# Altium footprint library AccBottom.PcbLib: 7 footprints
Each footprint in its own frame and in the unit in brackets; x right, y up, seen from the top. Pads: shape width x height; smd on the part's side, far side on the other; paste and mask are expansions set on the pad; w line width, h text height; cw(c..) or ccw(c..) is an arc to the next point about the centre after c.
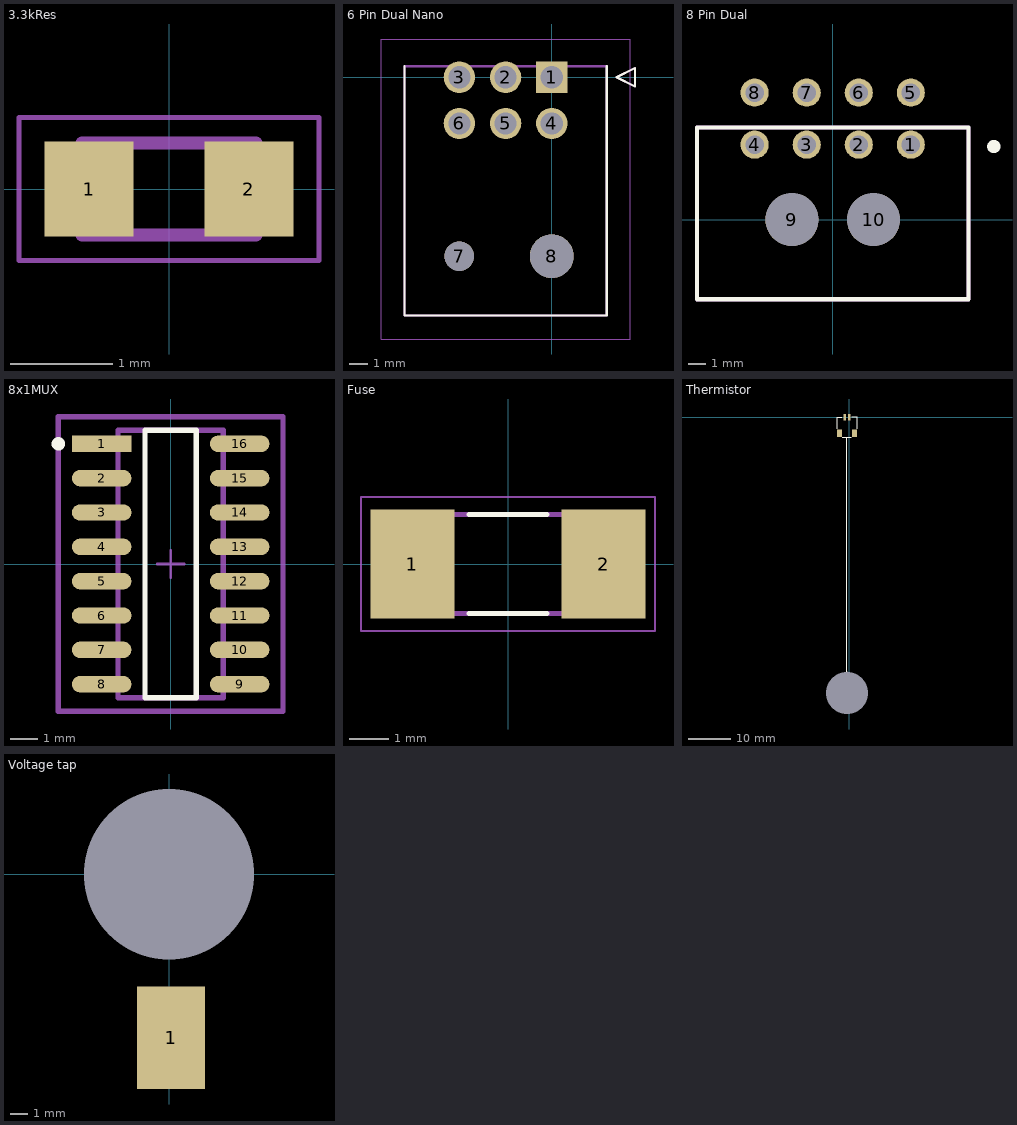
[diagram p0: the footprints below, top view; thin cyan lines are the x and y axes]

## 3.3kRes [mm]
pads (2):
  rect 0.87x0.93 smd: 1(-0.78,0) 2(0.78,0)
Mechanical 13:
  lines w0.127: -0.85,-0.45 0.85,-0.45 0.85,0.45 -0.85,0.45 -0.85,-0.45
Mechanical 15:
  lines w0.05: -1.465,-0.7 1.465,-0.7 1.465,0.7 -1.465,0.7 -1.465,-0.7
3D body "step_temp.STEP": height 0.55, standoff 0, extent -0.8,-0.4 0.8,0.4

## 6 Pin Dual Nano [mm]
pads (8):
  rect 1.7x1.7 / inner round 1.7 / far side rect 1.7x1.7 hole 1.2 mask+0.076: 1(0,0)
  round 1.7 hole 1.2 mask+0.076: 2(-2.5,0) 3(-5,0) 4(0,-2.5) 5(-2.5,-2.5) 6(-5,-2.5)
  round 1.6 hole 1.6 unplated mask+0.076: 7(-5,-9.68)
  round 2.37 hole 2.37 unplated mask+0.076: 8(0,-9.68)
Top Overlay:
  lines w0.127: -7.97,0.59 -7.97,-12.89 2.97,-12.89 2.97,0.59 ; 3.5,0 4.5,0.5 4.5,-0.5 3.5,0
Mechanical 15:
  lines w0.127: -7.97,-12.89 -7.97,0.59 2.97,0.59 2.97,-12.89 -7.97,-12.89 ; 3.5,0 4.5,0.5 4.5,-0.5 3.5,0
Mechanical 20:
  lines w0.05: -9.24,-14.16 -9.24,2.069 4.24,2.069 4.24,-14.16 -9.24,-14.16
3D body "1053141106.stp": height 5.8, standoff -4.65, extent -10,-3.376 10,3.376

## 8 Pin Dual [mm]
pads (10):
  round 1.62 hole 1.07: 1(4.5,4.32) 2(1.5,4.32) 3(-1.5,4.32) 4(-4.5,4.32) 5(4.5,7.32) 6(1.5,7.32) 7(-1.5,7.32) 8(-4.5,7.32)
  round 3.05 hole 3.05 unplated: 9(-2.35,0) 10(2.35,0)
Top Overlay:
  circle w0.4: c9.286,4.214 r0.183
  lines w0.254: -7.825,-4.6 7.825,-4.6 7.825,5.31 -7.825,5.31 -7.825,-4.6
Mechanical 15:
  lines w0.254: -7.825,-4.6 -7.825,5.31 7.825,5.31 7.825,-4.6 -7.825,-4.6
3D body "0430450800.stp": height 5.8, standoff -4.65, extent -10,-3.376 10,3.376

## 8x1MUX [mm]
pads (16):
  rect 2.204x0.608 smd paste+0 mask+0: 1(-2.551,4.445)
  rrect100% 2.204x0.608 smd paste+0 mask+0: 2(-2.551,3.175) 3(-2.551,1.905) 4(-2.551,0.635) 5(-2.551,-0.635) 6(-2.551,-1.905) 7(-2.551,-3.175) 8(-2.551,-4.445) 9(2.551,-4.445) 10(2.551,-3.175) 11(2.551,-1.905) 12(2.551,-0.635) 13(2.551,0.635) 14(2.551,1.905) 15(2.551,3.175) 16(2.551,4.445)
Top Overlay:
  circle w0.25: c-4.153,4.445 r0.125
  lines w0.2: -0.949,-4.95 -0.949,4.95 0.949,4.95 0.949,-4.95 -0.949,-4.95
Mechanical 10:
  lines w0.2: -4.153,-5.45 -4.153,5.45 4.153,5.45 4.153,-5.45 -4.153,-5.45
  text ".Designator" at 0,0.188 h1
Mechanical 12:
  lines w0.2: -1.95,-4.95 -1.95,4.95 1.95,4.95 1.95,-4.95 -1.95,-4.95
Mechanical 15:
  lines w0.1: -0.5,0 0.5,0 ; 0,-0.5 0,0.5
  lines w0.2: -4.153,-5.45 -4.153,5.45 4.153,5.45 4.153,-5.45 -4.153,-5.45
3D body "IC_Nexperia_74HC4051D_653_eec.STEP": height 0.25, standoff 0, extent -4.153,-5.45 4.153,5.45

## Fuse [mm]
pads (2):
  rect 2.15x2.8 smd: 1(-2.455,0) 2(2.455,0)
Top Overlay:
  lines w0.127: -1,-1.27 1,-1.27 ; -1,1.27 1,1.27
Mechanical 13:
  lines w0.127: -3.05,-1.27 -3.05,1.27 3.05,1.27 3.05,-1.27 -3.05,-1.27
Mechanical 15:
  lines w0.05: -3.78,-1.72 3.78,-1.72 3.78,1.72 -3.78,1.72 -3.78,-1.72
3D body "0679H0250-05.STEP": height 2.55, standoff 0.01, extent -3.052,-1.393 3.048,1.397

## Thermistor [mm]
pads (5):
  rect 0.6x1.55 smd: 1(-1,0) 2(0,0)
  rect 1.2x1.8 smd: ""(-2.325,-3.825) ""(1.3,-3.825)
  oval 0.6x1.2 hole 10 unplated: ""(-0.5,-65.25)
Top Overlay:
  lines w0.2: -2.8,-2.7 -2.8,0.05 -1.7,0.05 ; -1.575,-4.725 0.45,-4.725 ; -0.563,-4.725 -0.563,-60.287 -0.525,-60.325 ; 0.612,0.075 1.9,0.075 1.9,-2.725
3D body "Thermistor.stp": height 1.24, standoff -3.23, extent -3.125,-69.409 1.875,0.175

## Voltage tap [mm]
pads (2):
  rect 4x6 smd: 1(0.125,-9.6)
  round 3 hole 10 unplated: ""(0,0)
Assembly Notes:
  circle w0.254: c0,0 r0.75